# EAGLE library part TXS0104E (library MinotaurParts)
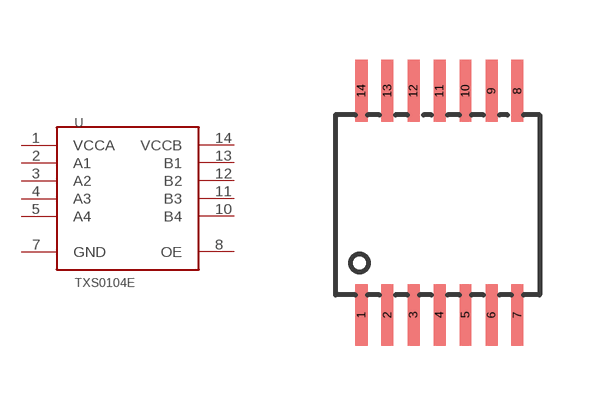
[diagram p5: symbol with the pads of SSOP-14; footprint SSOP-14]

Designator prefix -

## TXS0104E  [SSOP-14]
1  VCCA
2  A1
3  A2
4  A3
5  A4
7  GND
8  OE
10  B4
11  B3
12  B2
13  B1
14  VCCB

## Footprint SSOP-14 (pad centres in mm)
smd 0.3 x 1.55: 1 -1.95,-2.8; 2 -1.3,-2.8; 3 -0.65,-2.8; 4 0,-2.8; 5 0.65,-2.8; 6 1.3,-2.8; 7 1.95,-2.8; 8 1.95,2.8; 9 1.3,2.8; 10 0.65,2.8; 11 0,2.8; 12 -0.65,2.8; 13 -1.3,2.8; 14 -1.95,2.8